# EAGLE library part ER-CON06HT-1 (library ER-CON06HT-1)
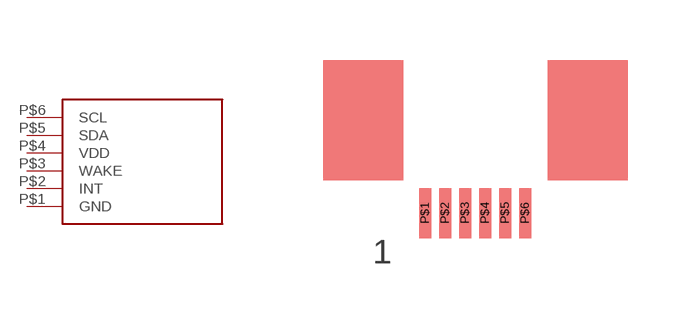
[diagram p0: symbol with the pads of ER-CON06HT-1; footprint ER-CON06HT-1]

Designator prefix -

## ER-CON06HT-1  [ER-CON06HT-1]
P$1  GND
P$2  INT
P$3  WAKE
P$4  VDD
P$5  SDA
P$6  SCL

## Footprint ER-CON06HT-1 (pad centres in mm)
smd 0.3 x 1.25: P$1 -1.23,0; P$2 -0.73,0; P$3 -0.23,0; P$4 0.27,0; P$5 0.77,0; P$6 1.27,0